# EAGLE library part ISL29023 (library isl29023)
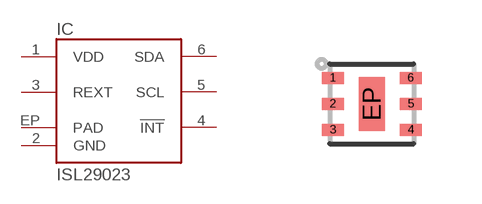
[diagram p0: symbol with the pads of ODFN-6; footprint ODFN-6]

Designator prefix IC

## ISL29023  [ODFN-6]
1  VDD  pwr
2  GND  pwr
3  REXT  pas
4  !INT  oc
5  SCL
6  SDA
EP  PAD  pas

## Footprint ODFN-6 (pad centres in mm)
smd 0.55 x 0.3: 1 -0.975,0.65; 2 -0.975,0; 3 -0.975,-0.65; 4 0.975,-0.65; 5 0.975,0; 6 0.975,0.65
smd 0.65 x 1.35: EP 0,0